# EAGLE library part DIP36 (library Adapter_DIP36)
1x16 .1" header
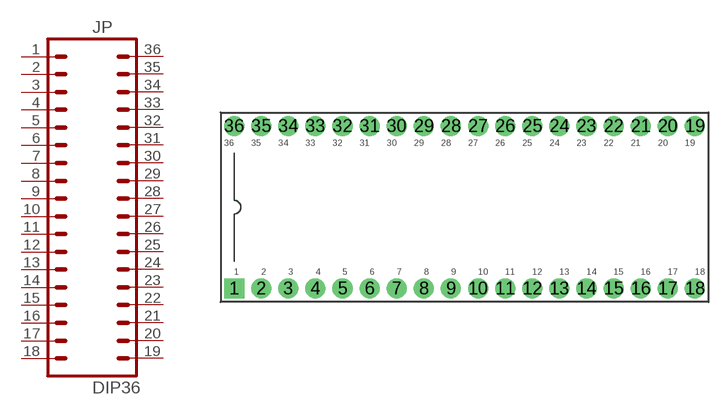
[diagram p0: symbol with the pads of DIP36; footprint DIP36]

Designator prefix JP

## DIP36PTH  [DIP36]
1  1  pas
2  2  pas
3  3  pas
4  4  pas
5  5  pas
6  6  pas
7  7  pas
8  8  pas
9  9  pas
10  10  pas
11  11  pas
12  12  pas
13  13  pas
14  14  pas
15  15  pas
16  16  pas
17  17  pas
18  18  pas
19  19  pas
20  20  pas
21  21  pas
22  22  pas
23  23  pas
24  24  pas
25  25  pas
26  26  pas
27  27  pas
28  28  pas
29  29  pas
30  30  pas
31  31  pas
32  32  pas
33  33  pas
34  34  pas
35  35  pas
36  36  pas

## Footprint DIP36 (pad centres in mm)
drill 1.016 pad 1.88 square: 1 0,0
drill 1.016 pad 1.88: 2 2.54,0; 3 5.08,0; 4 7.62,0; 5 10.16,0; 6 12.7,0; 7 15.24,0; 8 17.78,0; 9 20.32,0; 10 22.86,0; 11 25.4,0; 12 27.94,0; 13 30.48,0; 14 33.02,0; 15 35.56,0; 16 38.1,0; 17 40.64,0; 18 43.18,0; 19 43.18,15.24; 20 40.64,15.24; 21 38.1,15.24; 22 35.56,15.24; 23 33.02,15.24; 24 30.48,15.24; 25 27.94,15.24; 26 25.4,15.24; 27 22.86,15.24; 28 20.32,15.24; 29 17.78,15.24; 30 15.24,15.24; 31 12.7,15.24; 32 10.16,15.24; 33 7.62,15.24; 34 5.08,15.24; 35 2.54,15.24; 36 0,15.24